# EAGLE library part ALZ-FORM-A (library relay)
Panasonic LZ (ALZ) Series Form-A
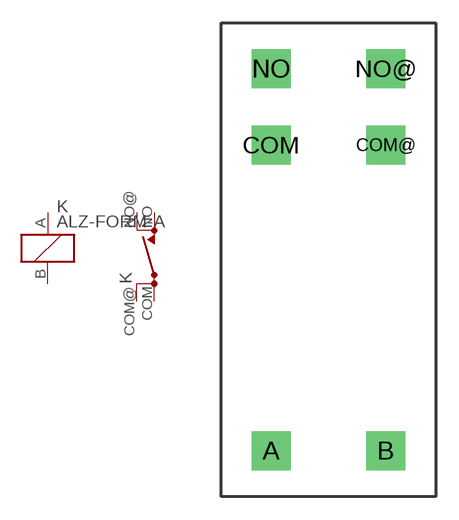
[diagram p55: symbol with the pads of ALZ-FORM-A; footprint ALZ-FORM-A]

Designator prefix K; gates G$1=K G$2=SD

## ALZ-FORM-A  [ALZ-FORM-A]
A  G$1:1  pas
B  G$1:2  pas
COM  G$2:COM  pas
COM@  G$2:COM  pas
NO  G$2:NO  pas
NO@  G$2:NO  pas

## Footprint ALZ-FORM-A (pad centres in mm)
Panasonic LZ (ALZ) Series Form-A
drill 1.422 pad 2.54 square: A -3.75,0; B 3.75,0; COM -3.75,20; COM@ 3.75,20; NO -3.75,25; NO@ 3.75,25